# Altium schematic symbol library Components.SchLib: 59 symbols
Pins are listed as number, name and electrical type; pins without a type are passive.

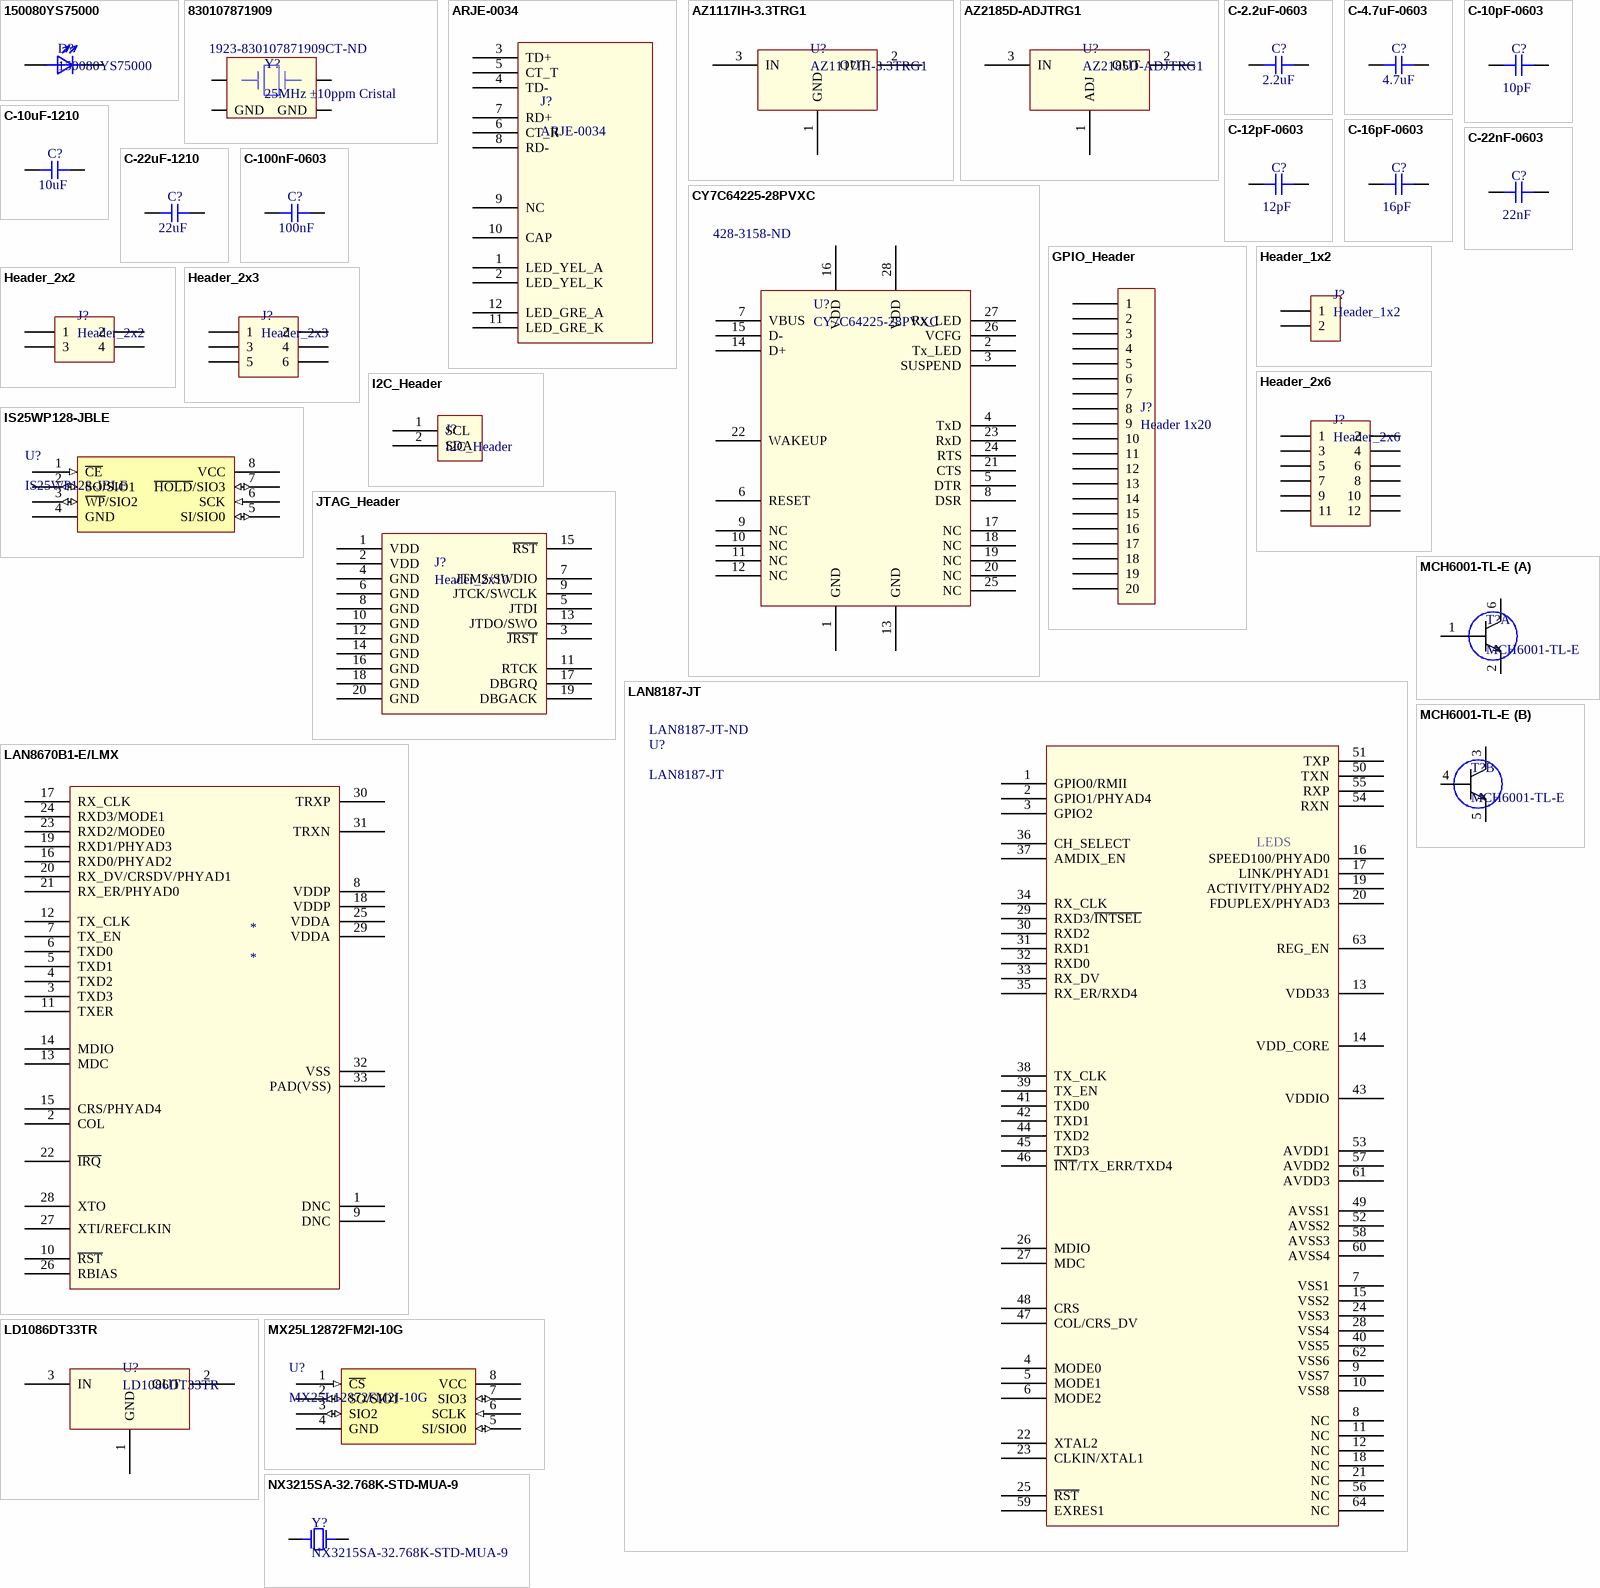
[diagram p0: symbols 150080YS75000 to NX3215SA-32.768K-STD-MUA-9]

## 150080YS75000
designator D?
Supplier 1: Digi-Key; Supplier Part Number 1: 732-4987-1-ND
footprint 150080YS75000
pins: 1, 2

## 830107871909
designator Y?, comment 25MHz ±10ppm Cristal  Supplier Part Number 1: 1923-830107871909CT-ND
Supplier 1: Digi-Key
footprint 830107871909
pins: 1 GND, 2 GND, 3 XTAL2, 4 GND

## ARJE-0034
designator J?
Supplier 1: Digi-Key; Supplier Part Number 1: 535-12443-1-ND
footprint ARJE-0034
pins: 1 LED_YEL_A, 2 LED_YEL_K, 3 TD+, 4 TD-, 5 CT_T, 6 CT_R, 7 RD+, 8 RD-, 9 NC, 10 CAP, 11 LED_GRE_K, 12 LED_GRE_A

## AZ1117IH-3.3TRG1
designator U?
Supplier 1: Digi-Key; Supplier Part Number 1: AZ1117IH-3.3TRG1DICT-ND
footprint AZ1117IH-3.3TRG1
pins: 1 GND, 2 OUT, 3 IN

## AZ2185D-ADJTRG1
designator U?
Supplier 1: Digi-Key; Supplier Part Number 1: AZ2185D-ADJTRG1DICT-ND
footprint AZ2185D-ADJTRG1
pins: 1 ADJ, 2 OUT, 3 IN

## C-2.2uF-0603
designator C?  value 2.2uF  (hidden comment: C-2.2uF-0603)
Supplier 1: Digi-Key; Supplier Part Number 1: 1276-1085-1-ND
footprint Capacitor-0603
pins: 1, 2

## C-4.7uF-0603
designator C?  value 4.7uF  (hidden comment: C-4.7uF-0603)
Supplier 1: Digi-Key; Supplier Part Number 1: 490-7203-1-ND
footprint Capacitor-0603
pins: 1, 2

## C-10pF-0603
designator C?  value 10pF  (hidden comment: C-10pF-0603)
Supplier 1: Digi-Key; Supplier Part Number 1: 478-1163-1-ND
footprint Capacitor-0603
pins: 1, 2

## C-10uF-1210
designator C?  value 10uF  (hidden comment: C-10uF-1210)
Supplier 1: Digi-Key; Supplier Part Number 1: 399-8225-1-ND
footprint Capacitor-1210
pins: 1, 2

## C-12pF-0603
designator C?  value 12pF  (hidden comment: C-12pF-0603)
footprint Capacitor-0603
pins: 1, 2

## C-16pF-0603
designator C?  value 16pF  (hidden comment: C-16pF-0603)
Supplier 1: Digi-Key; Supplier Part Number 1: 1292-1490-1-ND
footprint Capacitor-0603
pins: 1, 2

## C-22nF-0603
designator C?  value 22nF  (hidden comment: C-22nF-0603)
Supplier 1: Digi-Key; Supplier Part Number 1: 445-5663-1-ND
footprint Capacitor-0603
pins: 1, 2

## C-22uF-1210
designator C?  value 22uF  (hidden comment: C-22uF-1210)
Supplier 1: Digi-Key; Supplier Part Number 1: 1276-3372-1-ND
footprint Capacitor-1210
pins: 1, 2

## C-100nF-0603
designator C?  value 100nF  (hidden comment: C-100nF-0603)
Supplier 1: Digi-Key; Supplier Part Number 1: 1276-1006-1-ND
footprint Capacitor-0603
pins: 1, 2

## CY7C64225-28PVXC
designator U?  Supplier Part Number 1: 428-3158-ND
Supplier 1: Digi-Key
footprint CY7C64225-28PVXC
pins: 1 GND, 2 Tx_LED, 3 SUSPEND, 4 TxD, 5 DTR, 6 RESET, 7 VBUS, 8 DSR, 9 NC, 10 NC, 11 NC, 12 NC, 13 GND, 14 D+, 15 D-, 16 VDD, 17 NC, 18 NC, 19 NC, 20 NC, 21 CTS, 22 WAKEUP, 23 RxD, 24 RTS, 25 NC, 26 VCFG, 27 Rx_LED, 28 VDD

## GPIO_Header
designator J?, comment Header 1x20
Supplier 1: Digi-Key; Supplier Part Number 1: S7018-ND
footprint GPIO_Header
pins: 1, 2, 3, 4, 5, 6, 7, 8, 9, 10, 11, 12, 13, 14, 15, 16, 17, 18, 19, 20

## Header_1x2
designator J?
Supplier 1: Digi-Key; Supplier Part Number 1: A19423-ND
footprint Header_1x2
pins: 1, 2

## Header_2x2
designator J?
Supplier 1: Digi-Key; Supplier Part Number 1: 2057-PH2-04-UA-ND
footprint Header_2x2
pins: 1, 2, 3, 4

## Header_2x3
designator J?
Supplier 1: Digi-Key; Supplier Part Number 1: 2057-PH2-06-UA-ND
footprint Header_2x3
pins: 1, 2, 3, 4, 5, 6

## Header_2x6
designator J?
Supplier 1: Digi-Key; Supplier Part Number 1: 2057-PH2-12-UA-ND
footprint Header_2x6
pins: 1, 2, 3, 4, 5, 6, 7, 8, 9, 10, 11, 12

## I2C_Header
designator J?
Supplier 1: Digi-Key; Supplier Part Number 1: SAM1222-02-ND
footprint I2C_header
pins: 1 SCL, 2 SDA

## IS25WP128-JBLE
designator U?
Supplier 1: Digi-Key; Supplier Part Number 1: 706-1443-ND
footprint IS25WP128-JBLE
pins: 1 ~{CE} (in), 2 SO/SIO1 (io), 3 ~{WP}/SIO2 (io), 4 GND (power), 5 SI/SIO0 (io), 6 SCK (in), 7 ~{HOLD}/SIO3 (io), 8 VCC (power)

## JTAG_Header
designator J?, comment Header_2x10
Supplier 1: Digi-Key; Supplier Part Number 1: 2057-PH2-20-UA-ND
footprint JTAG_Header
pins: 1 VDD, 2 VDD, 3 ~{JRST}, 4 GND, 5 JTDI, 6 GND, 7 JTMS/SWDIO, 8 GND, 9 JTCK/SWCLK, 10 GND, 11 RTCK, 12 GND, 13 JTDO/SWO, 14 GND, 15 ~{RST}, 16 GND, 17 DBGRQ, 18 GND, 19 DBGACK, 20 GND

## LAN8187-JT
designator U?  Supplier Part Number 1: LAN8187-JT-ND
Supplier 1: Digi-Key
footprint LAN8187-JT
pins: 1 GPIO0/RMII, 2 GPIO1/PHYAD4, 3 GPIO2, 4 MODE0, 5 MODE1, 6 MODE2, 7 VSS1, 8 NC, 9 VSS7, 10 VSS8, 11 NC, 12 NC, 13 VDD33, 14 VDD_CORE, 15 VSS2, 16 SPEED100/PHYAD0, 17 LINK/PHYAD1, 18 NC, 19 ACTIVITY/PHYAD2, 20 FDUPLEX/PHYAD3, 21 NC, 22 XTAL2, 23 CLKIN/XTAL1, 24 VSS3, 25 ~{RST}, 26 MDIO, 27 MDC, 28 VSS4, 29 RXD3/~{INTSEL}, 30 RXD2, 31 RXD1, 32 RXD0, 33 RX_DV, 34 RX_CLK, 35 RX_ER/RXD4, 36 CH_SELECT, 37 AMDIX_EN, 38 TX_CLK, 39 TX_EN, 40 VSS5, 41 TXD0, 42 TXD1, 43 VDDIO, 44 TXD2, 45 TXD3, 46 ~{INT}/TX_ERR/TXD4, 47 COL/CRS_DV, 48 CRS, 49 AVSS1, 50 TXN, 51 TXP, 52 AVSS2, 53 AVDD1, 54 RXN, 55 RXP, 56 NC, 57 AVDD2, 58 AVSS3, 59 EXRES1, 60 AVSS4, 61 AVDD3, 62 VSS6, 63 REG_EN, 64 NC
text: LEDS

## LAN8670B1-E/LMX
designator *
pins: 1 DNC, 2 COL, 3 TXD3, 4 TXD2, 5 TXD1, 6 TXD0, 7 TX_EN, 8 VDDP, 9 DNC, 10 ~{RST}, 11 TXER, 12 TX_CLK, 13 MDC, 14 MDIO, 15 CRS/PHYAD4, 16 RXD0/PHYAD2, 17 RX_CLK, 18 VDDP, 19 RXD1/PHYAD3, 20 RX_DV/CRSDV/PHYAD1, 21 RX_ER/PHYAD0, 22 ~{IRQ}, 23 RXD2/MODE0, 24 RXD3/MODE1, 25 VDDA, 26 RBIAS, 27 XTI/REFCLKIN, 28 XTO, 29 VDDA, 30 TRXP, 31 TRXN, 32 VSS, 33 PAD(VSS)

## LD1086DT33TR
designator U?
Supplier 1: Digi-Key; Supplier Part Number 1: AZ1117IH-3.3TRG1DICT-ND
footprint LD1086DT33TR
pins: 1 GND, 2 OUT, 3 IN

## MCH6001-TL-E
designator T?
Supplier 1: Mouser; Supplier Part Number 1: 863-MCH6001-TL-E
footprint MCH6001-TL-E
part A pins: 1 B1, 2 E1, 6 C1
part B pins: 3 C2, 4 B2, 5 E2

## MX25L12872FM2I-10G
designator U?
Supplier 1: Digi-Key; Supplier Part Number 1: MX25L12872FM2I-10G-ND
pins: 1 ~{CS} (in), 2 SO/SIO1 (io), 3 SIO2 (io), 4 GND (power), 5 SI/SIO0 (io), 6 SCLK (in), 7 SIO3 (io), 8 VCC (power)

## NX3215SA-32.768K-STD-MUA-9
designator Y?
Supplier 1: Digi-Key; Supplier Part Number 1: 644-1155-1-ND
footprint NX3215SA-32.768K-STD-MUA-9
pins: 1, 2

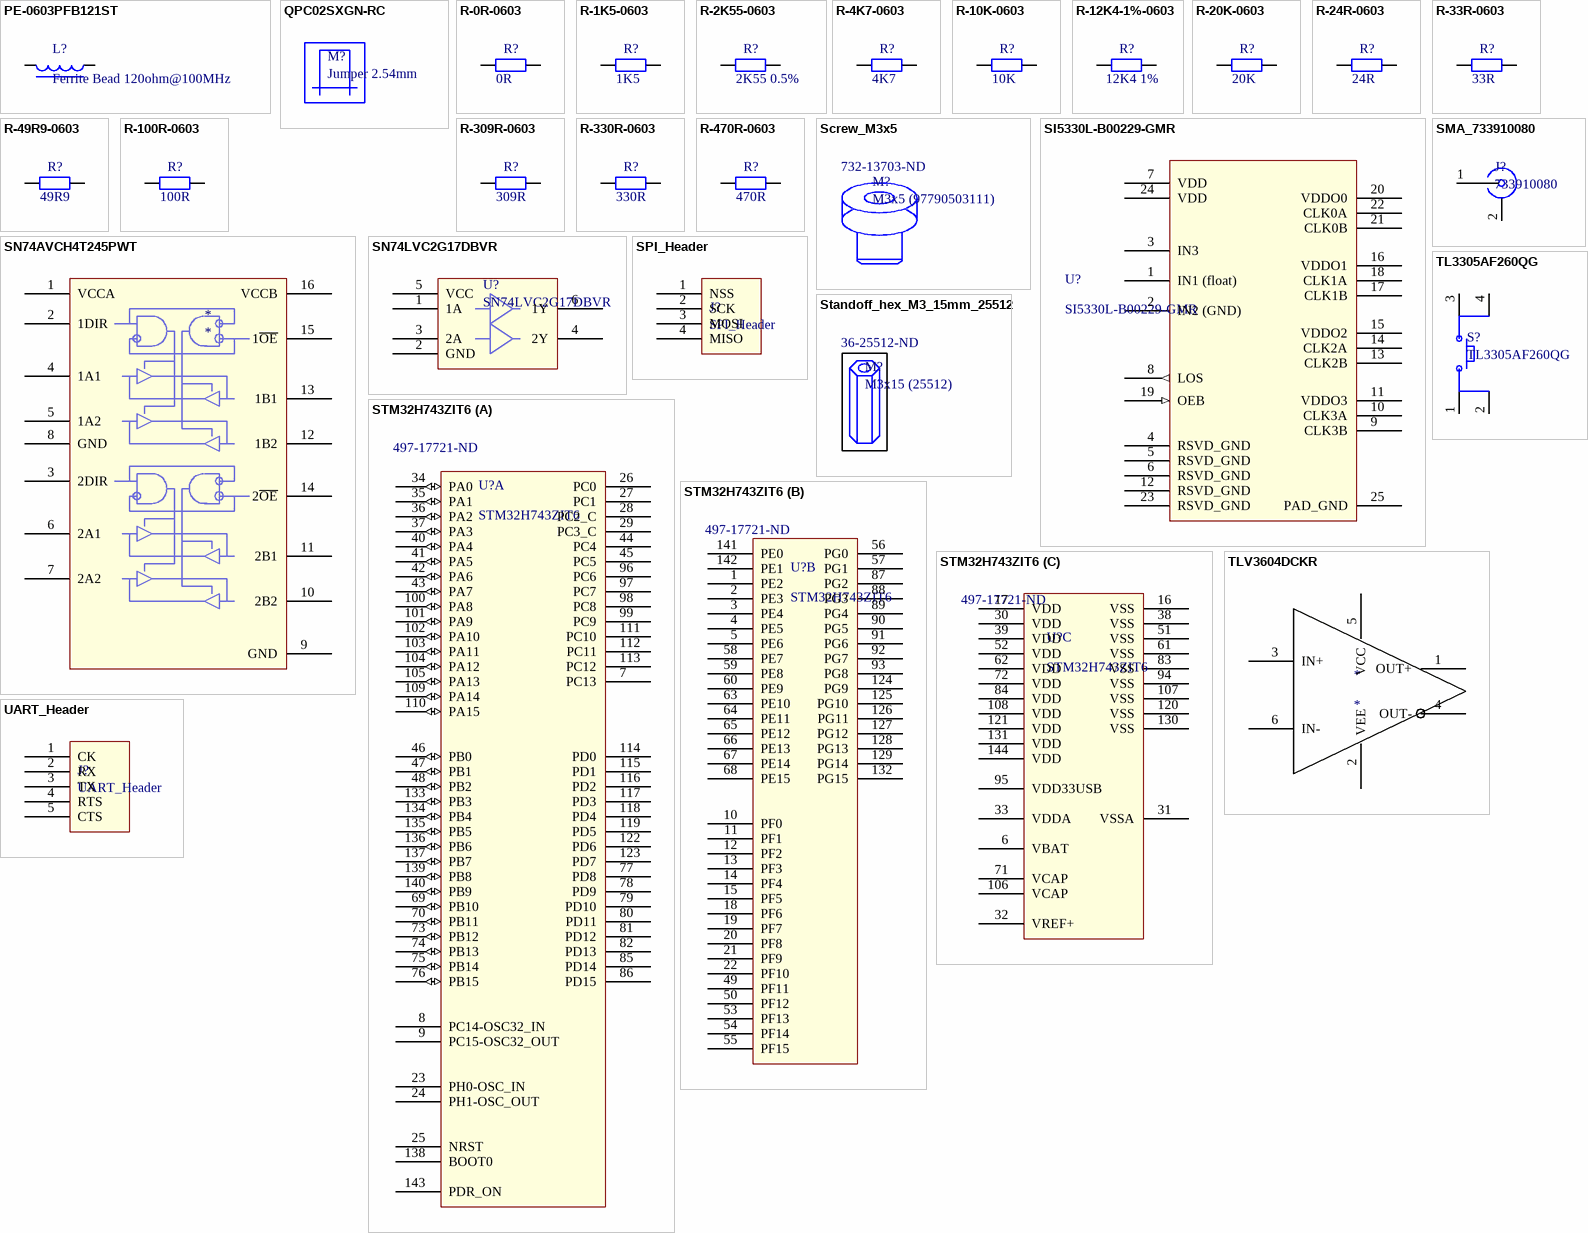
[diagram p1: symbols PE-0603PFB121ST to UART_Header]

## PE-0603PFB121ST
designator L?, comment Ferrite Bead 120ohm@100MHz
Supplier 1: Digi-Key; Supplier Part Number 1: 553-2387-1-ND
footprint Inductor-0603
pins: 1, 2

## QPC02SXGN-RC
designator M?, comment Jumper 2.54mm
Supplier 1: Digi-Key; Supplier Part Number 1: S9337-ND

## R-0R-0603
designator R?  value 0R  (hidden comment: R-0R-0603)
Supplier 1: Digi-Key; Supplier Part Number 1: RMCF0603ZT0R00CT-ND
footprint Resistor-0603
pins: 1, 2

## R-1K5-0603
designator R?  value 1K5  (hidden comment: R-1K5-0603)
Supplier 1: Digi-Key; Supplier Part Number 1: 311-1.50KHRCT-ND
footprint Resistor-0603
pins: 1, 2

## R-2K55-0603
designator R?  value 2K55 0.5%  (hidden comment: R-2K55-0603)
Supplier 1: Digi-Key; Supplier Part Number 1: 408-1735-1-ND
footprint Resistor-0603
pins: 1, 2

## R-4K7-0603
designator R?  value 4K7  (hidden comment: R-4K7-0603)
Supplier 1: Digi-Key; Supplier Part Number 1: 311-4.70KHRCT-ND
footprint Resistor-0603
pins: 1, 2

## R-10K-0603
designator R?  value 10K  (hidden comment: R-10K-0603)
Supplier 1: Digi-Key; Supplier Part Number 1: 311-10.0KHRCT-ND
footprint Resistor-0603
pins: 1, 2

## R-12K4-1%-0603
designator R?  value 12K4 1%  (hidden comment: R-12K4-1%-0603)
Supplier 1: Digi-Key; Supplier Part Number 1: RMCF0603FT12K4CT-ND
footprint Resistor-0603
pins: 1, 2

## R-20K-0603
designator R?  value 20K  (hidden comment: R-20K-0603)
Supplier 1: Digi-Key; Supplier Part Number 1: RMCF0603FT20K0CT-ND
footprint Resistor-0603
pins: 1, 2

## R-24R-0603
designator R?  value 24R  (hidden comment: R-24R-0603)
Supplier 1: Digi-Key; Supplier Part Number 1: RMCF0603FT24R0CT-ND
footprint Resistor-0603
pins: 1, 2

## R-33R-0603
designator R?  value 33R  (hidden comment: R-33R-0603)
Supplier 1: Digi-Key; Supplier Part Number 1: RMCF0603FT33R0CT-ND
footprint Resistor-0603
pins: 1, 2

## R-49R9-0603
designator R?  value 49R9  (hidden comment: R-49R9-0603)
Supplier 1: Digi-Key; Supplier Part Number 1: RMCF0603FT49R9CT-ND
footprint Resistor-0603
pins: 1, 2

## R-100R-0603
designator R?  value 100R  (hidden comment: R-100R-0603)
Supplier 1: Digi-Key; Supplier Part Number 1: 311-100HRCT-ND
footprint Resistor-0603
pins: 1, 2

## R-309R-0603
designator R?  value 309R  (hidden comment: R-309R-0603)
Supplier 1: Digi-Key; Supplier Part Number 1: 311-309HRCT-ND
footprint Resistor-0603
pins: 1, 2

## R-330R-0603
designator R?  value 330R  (hidden comment: R-330R-0603)
Supplier 1: Digi-Key; Supplier Part Number 1: 311-330HRCT-ND
footprint Resistor-0603
pins: 1, 2

## R-470R-0603
designator R?  value 470R  (hidden comment: R-470R-0603)
Supplier 1: Digi-Key; Supplier Part Number 1: 311-470HRCT-ND
footprint Resistor-0603
pins: 1, 2

## Screw_M3x5
designator M?, comment M3x5 (97790503111)  Supplier Part Number 1: 732-13703-ND
Supplier 1: Digi-Key
footprint Screw_M3

## SI5330L-B00229-GMR
designator U?
pins: 1 IN1 (float), 2 IN2 (GND), 3 IN3, 4 RSVD_GND, 5 RSVD_GND, 6 RSVD_GND, 7 VDD, 8 LOS (out), 9 CLK3B, 10 CLK3A, 11 VDDO3, 12 RSVD_GND, 13 CLK2B, 14 CLK2A, 15 VDDO2, 16 VDDO1, 17 CLK1B, 18 CLK1A, 19 OEB (in), 20 VDDO0, 21 CLK0B, 22 CLK0A, 23 RSVD_GND, 24 VDD, 25 PAD_GND

## SMA_733910080
designator J?, comment 733910080
Supplier 1: Digi-Key; Supplier Part Number 1: WM4088-ND
footprint SMA_733910080
pins: 1 SIG, 2 GND

## SN74AVCH4T245PWT
designator *
pins: 1 VCCA, 2 1DIR, 3 2DIR, 4 1A1, 5 1A2, 6 2A1, 7 2A2, 8 GND, 9 GND, 10 2B2, 11 2B1, 12 1B2, 13 1B1, 14 2~{OE}, 15 1~{OE}, 16 VCCB

## SN74LVC2G17DBVR
designator U?
Supplier 1: Digi-Key; Supplier Part Number 1: 296-SN74LVC2G17DBVRDKR-ND
footprint SN74LVC2G17DBVR
pins: 1 1A, 2 GND, 3 2A, 4 2Y, 5 VCC, 6 1Y

## SPI_Header
designator J?
Supplier 1: Digi-Key; Supplier Part Number 1: SAM1213-04-ND
footprint SPI_Header
pins: 1 NSS, 2 SCK, 3 MOSI, 4 MISO

## Standoff_hex_M3_15mm_25512
designator M?, comment M3x15 (25512)  Supplier Part Number 1: 36-25512-ND
Supplier 1: Digi-Key

## STM32H743ZIT6
designator U?  Supplier Part Number 1: 497-17721-ND
Supplier 1: Digi-Key
footprint STM32H743ZIT6
part A pins: 7 PC13, 8 PC14-OSC32_IN, 9 PC15-OSC32_OUT, 23 PH0-OSC_IN, 24 PH1-OSC_OUT, 25 NRST, 26 PC0, 27 PC1, 28 PC2_C, 29 PC3_C, 34 PA0 (io), 35 PA1 (io), 36 PA2 (io), 37 PA3 (io), 40 PA4 (io), 41 PA5 (io), 42 PA6 (io), 43 PA7 (io), 44 PC4, 45 PC5, 46 PB0 (io), 47 PB1 (io), 48 PB2 (io), 69 PB10 (io), 70 PB11 (io), 73 PB12 (io), 74 PB13 (io), 75 PB14 (io), 76 PB15 (io), 77 PD8, 78 PD9, 79 PD10, 80 PD11, 81 PD12, 82 PD13, 85 PD14, 86 PD15, 96 PC6, 97 PC7, 98 PC8, 99 PC9, 100 PA8 (io), 101 PA9 (io), 102 PA10 (io), 103 PA11 (io), 104 PA12 (io), 105 PA13 (io), 109 PA14 (io), 110 PA15 (io), 111 PC10, 112 PC11, 113 PC12, 114 PD0, 115 PD1, 116 PD2, 117 PD3, 118 PD4, 119 PD5, 122 PD6, 123 PD7, 133 PB3 (io), 134 PB4 (io), 135 PB5 (io), 136 PB6 (io), 137 PB7 (io), 138 BOOT0, 139 PB8 (io), 140 PB9 (io), 143 PDR_ON
part B pins: 1 PE2, 2 PE3, 3 PE4, 4 PE5, 5 PE6, 10 PF0, 11 PF1, 12 PF2, 13 PF3, 14 PF4, 15 PF5, 18 PF6, 19 PF7, 20 PF8, 21 PF9, 22 PF10, 49 PF11, 50 PF12, 53 PF13, 54 PF14, 55 PF15, 56 PG0, 57 PG1, 58 PE7, 59 PE8, 60 PE9, 63 PE10, 64 PE11, 65 PE12, 66 PE13, 67 PE14, 68 PE15, 87 PG2, 88 PG3, 89 PG4, 90 PG5, 91 PG6, 92 PG7, 93 PG8, 124 PG9, 125 PG10, 126 PG11, 127 PG12, 128 PG13, 129 PG14, 132 PG15, 141 PE0, 142 PE1
part C pins: 6 VBAT, 16 VSS, 17 VDD, 30 VDD, 31 VSSA, 32 VREF+, 33 VDDA, 38 VSS, 39 VDD, 51 VSS, 52 VDD, 61 VSS, 62 VDD, 71 VCAP, 72 VDD, 83 VSS, 84 VDD, 94 VSS, 95 VDD33USB, 106 VCAP, 107 VSS, 108 VDD, 120 VSS, 121 VDD, 130 VSS, 131 VDD, 144 VDD

## TL3305AF260QG
designator S?
Supplier 1: Digi-Key; Supplier Part Number 1: EG5353CT-ND
footprint TL3305AF260QG
pins: 1, 2, 3, 4

## TLV3604DCKR
designator *
pins: 1 OUT+, 2 VEE, 3 IN+, 4 OUT-, 5 VCC, 6 IN-

## UART_Header
designator J?
Supplier 1: Digi-Key; Supplier Part Number 1: SAM1213-05-ND
footprint UART_Header
pins: 1 CK, 2 RX, 3 TX, 4 RTS, 5 CTS

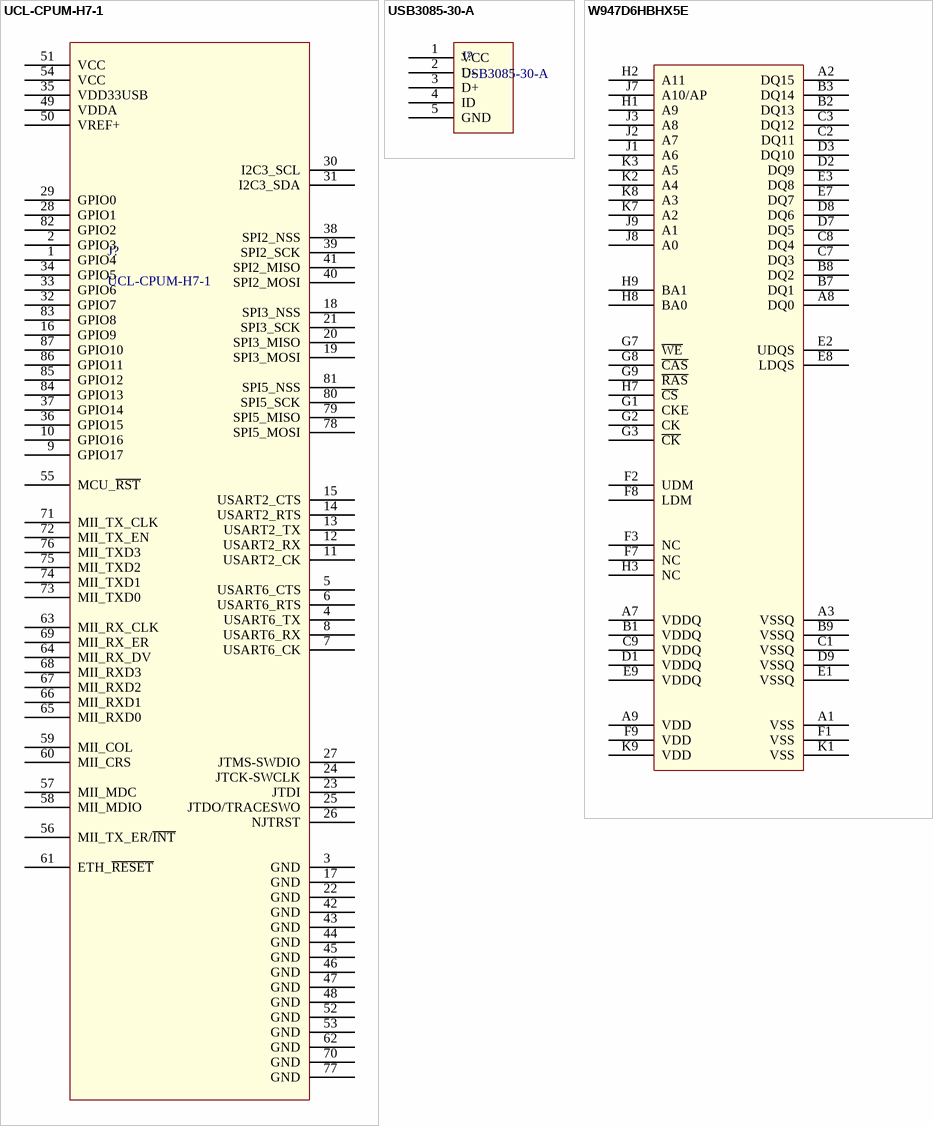
[diagram p2: symbols UCL-CPUM-H7-1 to W947D6HBHX5E]

## UCL-CPUM-H7-1
designator J?
footprint UCL-CPUM-H7-1
pins: 1 GPIO4, 2 GPIO3, 3 GND, 4 USART6_TX, 5 USART6_CTS, 6 USART6_RTS, 7 USART6_CK, 8 USART6_RX, 9 GPIO17, 10 GPIO16, 11 USART2_CK, 12 USART2_RX, 13 USART2_TX, 14 USART2_RTS, 15 USART2_CTS, 16 GPIO9, 17 GND, 18 SPI3_NSS, 19 SPI3_MOSI, 20 SPI3_MISO, 21 SPI3_SCK, 22 GND, 23 JTDI, 24 JTCK-SWCLK, 25 JTDO/TRACESWO, 26 NJTRST, 27 JTMS-SWDIO, 28 GPIO1, 29 GPIO0, 30 I2C3_SCL, 31 I2C3_SDA, 32 GPIO7, 33 GPIO6, 34 GPIO5, 35 VDD33USB, 36 GPIO15, 37 GPIO14, 38 SPI2_NSS, 39 SPI2_SCK, 40 SPI2_MOSI, 41 SPI2_MISO, 42 GND, 43 GND, 44 GND, 45 GND, 46 GND, 47 GND, 48 GND, 49 VDDA, 50 VREF+, 51 VCC, 52 GND, 53 GND, 54 VCC, 55 MCU_~{RST}, 56 MII_TX_ER/~{INT}, 57 MII_MDC, 58 MII_MDIO, 59 MII_COL, 60 MII_CRS, 61 ETH_~{RESET}, 62 GND, 63 MII_RX_CLK, 64 MII_RX_DV, 65 MII_RXD0, 66 MII_RXD1, 67 MII_RXD2, 68 MII_RXD3, 69 MII_RX_ER, 70 GND, 71 MII_TX_CLK, 72 MII_TX_EN, 73 MII_TXD0, 74 MII_TXD1, 75 MII_TXD2, 76 MII_TXD3, 77 GND, 78 SPI5_MOSI, 79 SPI5_MISO, 80 SPI5_SCK, 81 SPI5_NSS, 82 GPIO2, 83 GPIO8, 84 GPIO13, 85 GPIO12, 86 GPIO11, 87 GPIO10

## USB3085-30-A
designator J?
Supplier 1: Digi-Key; Supplier Part Number 1: 2073-USB3085-30-ACT-ND
footprint USB3085-30-A
pins: 1 VCC, 2 D-, 3 D+, 4 ID, 5 GND

## W947D6HBHX5E
designator U?  Supplier Part Number 1: W947D6HBHX5E-ND
Supplier 1: Digi-Key
footprint W947D6HBHX5E
pins: A1 VSS, A2 DQ15, A3 VSSQ, A7 VDDQ, A8 DQ0, A9 VDD, B1 VDDQ, B2 DQ13, B3 DQ14, B7 DQ1, B8 DQ2, B9 VSSQ, C1 VSSQ, C2 DQ11, C3 DQ12, C7 DQ3, C8 DQ4, C9 VDDQ, D1 VDDQ, D2 DQ9, D3 DQ10, D7 DQ5, D8 DQ6, D9 VSSQ, E1 VSSQ, E2 UDQS, E3 DQ8, E7 DQ7, E8 LDQS, E9 VDDQ, F1 VSS, F2 UDM, F3 NC, F7 NC, F8 LDM, F9 VDD, G1 CKE, G2 CK, G3 ~{CK}, G7 ~{WE}, G8 ~{CAS}, G9 ~{RAS}, H1 A9, H2 A11, H3 NC, H7 ~{CS}, H8 BA0, H9 BA1, J1 A6, J2 A7, J3 A8, J7 A10/AP, J8 A0, J9 A1, K1 VSS, K2 A4, K3 A5, K7 A2, K8 A3, K9 VDD